# Altium footprint library MB.PcbLib: 1 footprints
Each footprint in its own frame and in the unit in brackets; x right, y up, seen from the top. Pads: shape width x height; smd on the part's side, far side on the other; paste and mask are expansions set on the pad; w line width, h text height; cw(c..) or ccw(c..) is an arc to the next point about the centre after c.
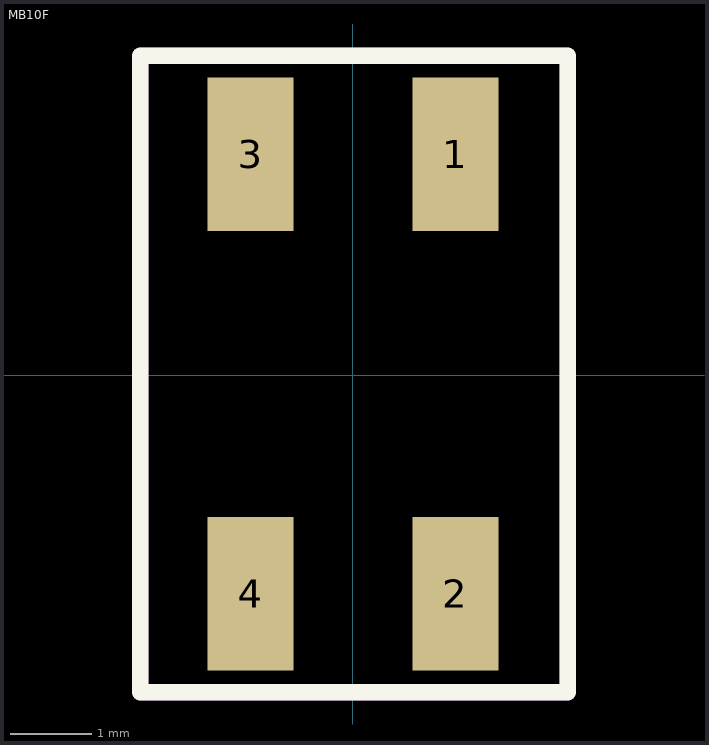
[diagram p0: the footprint, top view; thin cyan lines are the x and y axes]

## MB10F [mm]
pads (4):
  rect 1.05x1.875 smd: 1(1.25,2.7) 2(1.25,-2.675) 3(-1.25,2.7) 4(-1.25,-2.675)
Top Overlay:
  lines w0.2: -2.6,-3.875 2.625,-3.875 2.625,3.9 -2.6,3.9 -2.6,-3.875
TopAssy:
  lines w0.2: -2.6,-3.875 -2.6,3.9 2.625,3.9 2.625,-3.875 -2.6,-3.875
  text ".Designator" at -0.525,0.125 h1.52
3D body "MB10F TMBS.step": height 1.61, standoff 0, extent -2.45,-3.4 2.45,3.4